# Altium footprint library Miscellaneous.PcbLib: 2 footprints
Each footprint in its own frame and in the unit in brackets; x right, y up, seen from the top. Pads: shape width x height; smd on the part's side, far side on the other; paste and mask are expansions set on the pad; w line width, h text height; cw(c..) or ccw(c..) is an arc to the next point about the centre after c.
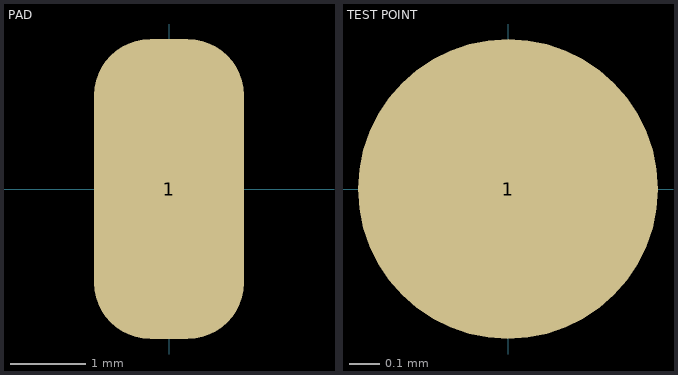
[diagram p0: the footprints below, top view; thin cyan lines are the x and y axes]

## PAD [mm]
pads (1):
  rrect75% 2x4 smd: 1(0,0)

## TEST POINT [mm]
pads (1):
  round 1 smd: 1(0,0)
Top Assembly:
  circle w0.08: c0,0 r0.4